# Altium footprint library Trimmer Potentiometers.PcbLib: 3 footprints
Each footprint in its own frame and in the unit in brackets; x right, y up, seen from the top. Pads: shape width x height; smd on the part's side, far side on the other; paste and mask are expansions set on the pad; w line width, h text height; cw(c..) or ccw(c..) is an arc to the next point about the centre after c.
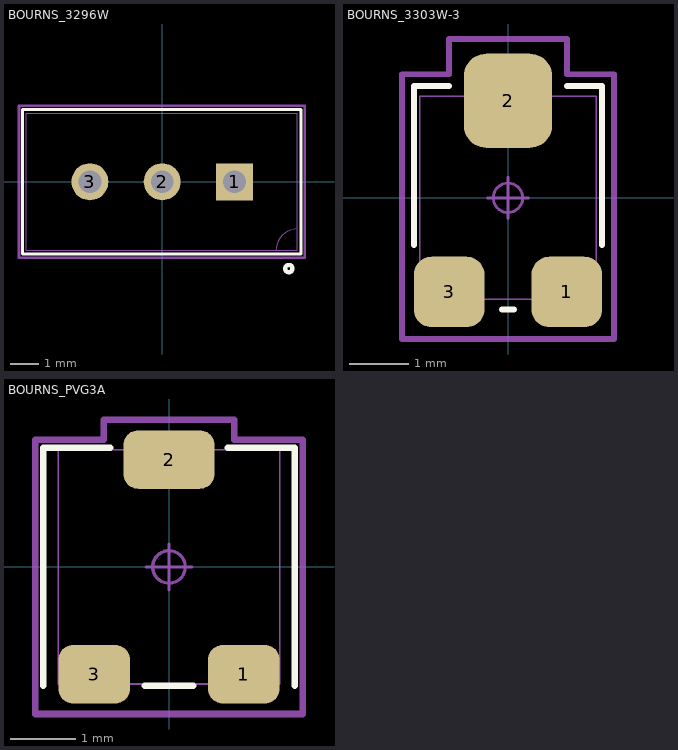
[diagram p0: the footprints below, top view; thin cyan lines are the x and y axes]

## BOURNS_3296W [mm]
pads (3):
  rect 1.3x1.3 hole 0.8 mask+0: 1(2.54,0)
  round 1.3 hole 0.8 mask+0: 2(0,0) 3(-2.54,0)
Top Overlay:
  circle w0.152: c4.445,-3.048 r0.127
  lines w0.1: -4.902,-2.54 4.877,-2.54 4.877,2.54 -4.902,2.54 -4.902,-2.54
Mechanical 13:
  lines w0.025: 3.995,-2.413 cw(c4.75,-2.413) 4.75,-1.658 ; -4.775,-2.413 4.75,-2.413 4.75,2.413 -4.775,2.413 -4.775,-2.413
Mechanical 15:
  circle w0.05: c0,0 r0.25
  lines w0.05: -0.35,0 0.35,0 ; 0,-0.35 0,0.35
  lines w0.1: -5.029,-2.667 -5.029,2.667 5.004,2.667 5.004,-2.667 -5.029,-2.667
3D body: height 0.25, standoff 0, extent -2.54,0 -2.286,0.254
3D body "User Library-3296W.step": height 11.55, standoff -1.6, extent -4.765,-2.4 4.765,2.4

## BOURNS_3303W-3 [mm]
pads (3):
  rrect50% 1.2x1.2 smd mask+0.04: 1(1,-1.6) 3(-1,-1.6)
  rrect50% 1.5x1.6 smd mask+0.04: 2(0,1.65)
Top Overlay:
  lines w0.1: -1.6,-0.8 -1.6,1.9 -1,1.9 ; -0.1,-1.9 0.1,-1.9 ; 1,1.9 1.6,1.9 1.6,-0.8
Mechanical 13:
  circle w0: c-0.914,-1.473 r0.127
  lines w0.025: -1.5,-1.727 1.5,-1.727 1.5,1.727 -1.5,1.727 -1.5,-1.727 ; -1.384,-1.905 -0.445,-1.905 -0.445,-1.727 -1.384,-1.727 -1.384,-1.905 ; -0.597,1.727 -0.597,1.905 0.597,1.905 0.597,1.727 -0.597,1.727 ; 0.445,-1.905 1.384,-1.905 1.384,-1.727 0.445,-1.727 0.445,-1.905
Mechanical 15:
  circle w0.05: c0,0 r0.25
  lines w0.05: -0.35,0 0.35,0 ; 0,-0.35 0,0.35
  lines w0.1: -1.8,-2.4 1.8,-2.4 1.8,2.1 1,2.1 1,2.7 -1,2.7 -1,2.1 -1.8,2.1 -1.8,-2.4
3D body "3303W-3.step": height 1.28, standoff 0, extent -1.5,-2 1.5,1.875

## BOURNS_PVG3A [mm]
pads (3):
  rrect50% 1.1x0.9 smd mask+0.04: 1(1.15,-1.65) 3(-1.15,-1.65)
  rrect50% 1.4x0.9 smd mask+0.04: 2(0,1.65)
Top Overlay:
  lines w0.1: -1.93,-1.829 -1.93,1.829 -0.904,1.829 ; -0.373,-1.829 0.373,-1.829 ; 0.904,1.829 1.93,1.829 1.93,-1.829
Mechanical 13:
  lines w0.025: -0.572,1.803 0.572,1.803 ; -0.572,1.803 0.572,1.803 ; -0.572,1.803 -0.572,2.025 0.572,2.025 0.572,1.803 ; 0.706,-1.803 1.595,-1.803 ; 0.706,-1.803 1.595,-1.803 ; 0.706,-1.803 0.706,-2.025 1.595,-2.025 1.595,-1.803 ; -1.7,-1.8 -1.7,1.8 1.7,1.8 1.7,-1.8 -1.7,-1.8 ; -1.595,-2.025 -0.706,-2.025 -0.706,-1.803 -1.595,-1.803 -1.595,-2.025
Mechanical 15:
  circle w0.05: c0,0 r0.25
  lines w0.05: -0.35,0 0.35,0 ; 0,-0.35 0,0.35
  lines w0.1: -2.057,-2.261 2.057,-2.261 2.057,-1.956 2.057,1.956 1,1.956 1,2.261 -1,2.261 -1,1.956 -2.057,1.956 -2.057,-1.956 -2.057,-2.261
3D body "User Library-TRIMMER_PVG3A.STEP": height 2, standoff 0, extent -1.7,-1.8 1.7,1.8